# Altium footprint library Passives-SMD_LED.PCBLIB: 29 footprints (part 1 of 2)
Each footprint in its own frame and in the unit in brackets; x right, y up, seen from the top. Pads: shape width x height; smd on the part's side, far side on the other; paste and mask are expansions set on the pad; w line width, h text height; cw(c..) or ccw(c..) is an arc to the next point about the centre after c.
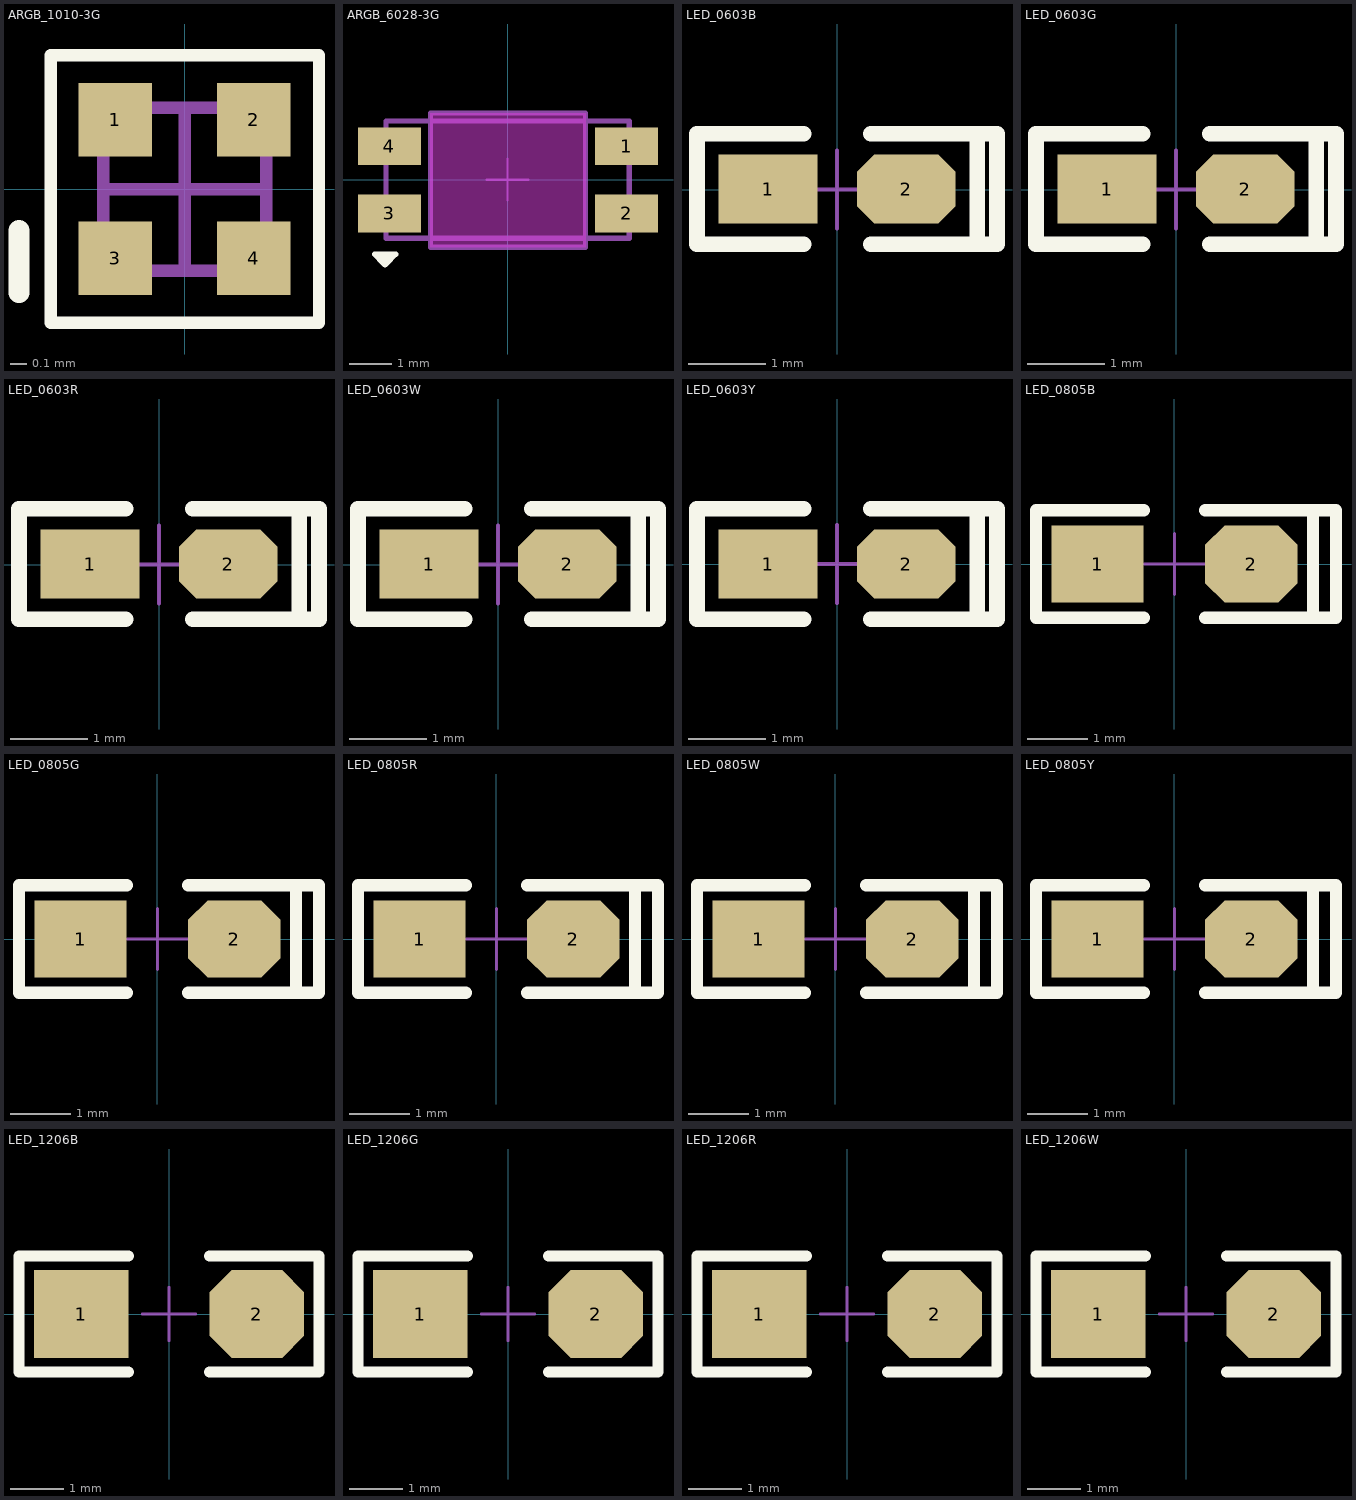
[diagram p0: the footprints below, top view; thin cyan lines are the x and y axes]

## ARGB_1010-3G [mm] "3GND"
pads (4):
  rect 0.45x0.45 smd: 1(-0.425,0.425) 2(0.425,0.425) 3(-0.425,-0.425) 4(0.425,-0.425)
Top Overlay:
  lines w0.076: -0.82,-0.82 0.825,-0.82 0.825,0.822 -0.82,0.822 -0.82,-0.82
  lines w0.127: -1.016,-0.635 -1.016,-0.254
Top 元件外形:
  lines w0.076: -0.5,-0.5 0.5,-0.5 0.5,0.5 -0.5,0.5 -0.5,-0.5
  text "DO" at -1.524,0.259 h0.51
  text "VDD" at 0.889,0.254 h0.51
  text "GND" at -1.857,-0.63 h0.51
  text "DI" at 0.889,-0.635 h0.51
Top 中心点:
  lines w0.076: -0.5,0 0.5,0 ; 0,-0.5 0,0.5
3D body: height 0.4, standoff 0, extent -0.5,-0.5 0.5,0.5

## ARGB_6028-3G [mm]
pads (4):
  rect 1.5x0.9 smd: 1(2.837,0.795) 2(2.837,-0.805) 3(-2.817,-0.805) 4(-2.817,0.795)
Top Overlay:
  lines w0.127: -3.048,-1.905 -2.921,-1.778 ; -3.048,-1.905 -2.921,-1.778 ; -3.048,-1.905 -2.794,-1.905 -2.921,-1.778 ; -3.175,-1.778 -2.667,-1.778 -2.921,-2.032 -3.175,-1.778
Keep-Out Layer:
  board cut-out: -1.84,-1.611 -1.84,1.589 1.86,1.589 1.86,-1.611
M1:
  lines w0.127: -1.84,-1.611 -1.84,1.589 1.86,1.589 1.86,-1.611 -1.84,-1.611
Top 元件外形:
  lines w0.127: -2.9,-1.4 2.9,-1.4 2.9,1.4 -2.9,1.4 -2.9,-1.4
  text "DO" at 0.608,-1.043 h0.6
  text "V" at 0.862,0.481 h0.6
  text "DI" at -1.297,0.481 h0.6
  text "G" at -1.297,-1.043 h0.6
Top 中心点:
  lines w0.05: -0.5,0 0.5,0 ; 0,-0.5 0,0.5
3D body "6028SMDRGB.STEP": height 1.25, standoff -0.8, extent -2.9,-1.4 2.9,1.4

## LED_0603B [mil]
pads (2):
  rect 50x35 smd: 1(-35,0.26)
  oct 50x35 smd: 2(35,0.26)
Top Overlay:
  lines w8: -17,-27.74 -71,-27.74 -71,-25.74 -71,28.26 -70,28.26 -17,28.26 ; 17,-27.74 70,-27.74 ; 17,28.26 71,28.26 81,28.26 81,-27.74 71,-27.74 71,26.26
Top 中心点:
  lines w1.97: -19.68,0 19.68,0 ; 0,-19.68 0,19.68
3D body "LED 0603-B.STEP": height 18.36, standoff -0.16, extent -31.49,-15.79 31.5,15.79
3D body "LED 0603玻璃罩.STEP": height 23.82, standoff 8.07, extent -23.58,-15.79 23.58,15.79

## LED_0603G [mil]
pads (2):
  rect 50x35 smd: 1(-35,0.26)
  oct 50x35 smd: 2(35,0.26)
Top Overlay:
  lines w8: -17,-27.74 -71,-27.74 -71,-25.74 -71,28.26 -70,28.26 -17,28.26 ; 17,-27.74 70,-27.74 ; 17,28.26 71,28.26 81,28.26 81,-27.74 71,-27.74 71,26.26
Top 中心点:
  lines w1.97: -19.68,0 19.68,0 ; 0,-19.68 0,19.68
3D body "LED 0603玻璃罩.": height 0, standoff 0, extent 0,0 0,0
3D body "LED 0603-G.STEP": height 18.36, standoff -0.16, extent -31.49,-15.79 31.5,15.79

## LED_0603R [mil]
pads (2):
  rect 50x35 smd: 1(-35,0.26)
  oct 50x35 smd: 2(35,0.26)
Top Overlay:
  lines w8: -17,-27.74 -71,-27.74 -71,-25.74 -71,28.26 -70,28.26 -17,28.26 ; 17,-27.74 70,-27.74 ; 17,28.26 71,28.26 81,28.26 81,-27.74 71,-27.74 71,26.26
Top 中心点:
  lines w1.97: -19.68,0 19.68,0 ; 0,-19.68 0,19.68
3D body "LED 0603-R.STEP": height 18.36, standoff -0.16, extent -31.5,-15.79 31.5,15.79
3D body "LED 0603玻璃罩.": height 0, standoff 0, extent 0,0 0,0

## LED_0603W [mil]
pads (2):
  rect 50x35 smd: 1(-35,0.26)
  oct 50x35 smd: 2(35,0.26)
Top Overlay:
  lines w8: -17,-27.74 -71,-27.74 -71,-25.74 -71,28.26 -70,28.26 -17,28.26 ; 17,-27.74 70,-27.74 ; 17,28.26 71,28.26 81,28.26 81,-27.74 71,-27.74 71,26.26
Top 中心点:
  lines w1.97: -19.68,0 19.68,0 ; 0,-19.68 0,19.68
3D body "LED 0603-W.STEP": height 18.36, standoff -0.16, extent -31.49,-15.79 31.5,15.79
3D body "LED 0603玻璃罩.": height 0, standoff 0, extent 0,0 0,0

## LED_0603Y [mil]
pads (2):
  rect 50x35 smd: 1(-35,0)
  oct 50x35 smd: 2(35,0)
Top Overlay:
  lines w8: -17,-28 -71,-28 -71,-26 -71,28 -70,28 -17,28 ; 17,-28 70,-28 ; 17,28 71,28 81,28 81,-28 71,-28 71,26
Top 中心点:
  lines w1.97: -19.68,0 19.68,0 ; 0,-19.68 0,19.68
3D body "LED 0603玻璃罩.": height 0, standoff 0, extent 0,0 0,0
3D body "LED 0603-Y.STEP": height 18.36, standoff -0.16, extent -31.5,-16.04 31.49,15.53

## LED_0805B [mil]
pads (2):
  rect 60x50 smd: 1(-50,0)
  oct 60x50 smd: 2(50,0)
Top Overlay:
  lines w8: -20,-35 -90,-35 -90,35 -20,35 ; 20,-35 105,-35 105,35 20,35 ; 90,-35 90,35
Top 中心点:
  lines w1.97: -19.68,0 19.68,0 ; 0,-19.68 0,19.68
3D body "LED 0805-B.STEP": height 26.33, standoff -0.16, extent -39.37,-24.65 39.37,24.65
3D body "LED 0805玻璃罩.STEP": height 31.69, standoff 12.01, extent -29.49,-24.65 29.49,24.65

## LED_0805G [mil]
pads (2):
  rect 60x50 smd: 1(-50,0)
  oct 60x50 smd: 2(50,0)
Top Overlay:
  lines w8: -20,-35 -90,-35 -90,35 -20,35 ; 20,-35 105,-35 105,35 20,35 ; 90,-35 90,35
Top 中心点:
  lines w1.97: -19.68,0 19.68,0 ; 0,-19.68 0,19.68
3D body "LED 0805玻璃罩.ST": height 31.69, standoff 12.01, extent -29.49,-24.65 29.49,24.65
3D body "LED 0805-G.STEP": height 26.33, standoff -0.16, extent -39.37,-24.65 39.37,24.65

## LED_0805R [mil]
pads (2):
  rect 60x50 smd: 1(-50,0)
  oct 60x50 smd: 2(50,0)
Top Overlay:
  lines w8: -20,-35 -90,-35 -90,35 -20,35 ; 20,-35 105,-35 105,35 20,35 ; 90,-35 90,35
Top 中心点:
  lines w1.97: -19.68,0 19.68,0 ; 0,-19.68 0,19.68
3D body "LED 0805玻璃罩.ST": height 31.69, standoff 12.01, extent -29.49,-24.65 29.49,24.65
3D body "LED 0805-R.STEP": height 26.33, standoff -0.16, extent -39.37,-24.65 39.37,24.64

## LED_0805W [mil]
pads (2):
  rect 60x50 smd: 1(-50,0)
  oct 60x50 smd: 2(50,0)
Top Overlay:
  lines w8: -20,-35 -90,-35 -90,35 -20,35 ; 20,-35 105,-35 105,35 20,35 ; 90,-35 90,35
Top 中心点:
  lines w1.97: -19.68,0 19.68,0 ; 0,-19.68 0,19.68
3D body "LED 0805玻璃罩.ST": height 31.69, standoff 12.01, extent -29.49,-24.65 29.49,24.65
3D body "LED 0805-W.STEP": height 26.33, standoff -0.16, extent -39.37,-24.65 39.37,24.64

## LED_0805Y [mil]
pads (2):
  rect 60x50 smd: 1(-50,0)
  oct 60x50 smd: 2(50,0)
Top Overlay:
  lines w8: -20,-35 -90,-35 -90,35 -20,35 ; 20,-35 105,-35 105,35 20,35 ; 90,-35 90,35
Top 中心点:
  lines w1.97: -19.68,0 19.68,0 ; 0,-19.68 0,19.68
3D body "LED 0805-Y.STEP": height 26.33, standoff -0.16, extent -39.37,-24.65 39.37,24.65
3D body "LED 0805玻璃罩.ST": height 31.69, standoff 12.01, extent -29.49,-24.65 29.49,24.65

## LED_1206B [mil]
pads (2):
  rect 70x65 smd: 1(-65,0)
  oct 70x65 smd: 2(65,0)
Top Overlay:
  lines w8: -30,-43 -111,-43 -111,43 -109,43 -30,43 ; 30,-43 109,-43 ; 30,43 111,43 111,-43
Top 中心点:
  lines w1.97: -19.68,0 19.68,0 ; 0,-19.68 0,19.68
3D body "LED 1206玻璃罩.STEP": height 39.57, standoff 19.88, extent -44.33,-31.54 44.33,31.54
3D body "LED 1206-B.STEP": height 35.58, standoff -0.16, extent -63.03,-31.54 63.03,31.54

## LED_1206G [mil]
pads (2):
  rect 70x65 smd: 1(-65,0)
  oct 70x65 smd: 2(65,0)
Top Overlay:
  lines w8: -30,-43 -111,-43 -111,43 -109,43 -30,43 ; 30,-43 109,-43 ; 30,43 111,43 111,-43
Top 中心点:
  lines w1.97: -19.68,0 19.68,0 ; 0,-19.68 0,19.68
3D body "LED 1206玻璃罩.ST": height 0, standoff 0, extent 0,0 0,0
3D body "LED 1206-G.STEP": height 35.58, standoff -0.16, extent -63.03,-31.54 63.03,31.54

## LED_1206R [mil]
pads (2):
  rect 70x65 smd: 1(-65,0)
  oct 70x65 smd: 2(65,0)
Top Overlay:
  lines w8: -30,-43 -111,-43 -111,43 -109,43 -30,43 ; 30,-43 109,-43 ; 30,43 111,43 111,-43
Top 中心点:
  lines w1.97: -19.68,0 19.68,0 ; 0,-19.68 0,19.68
3D body "LED 1206玻璃罩.ST": height 0, standoff 0, extent 0,0 0,0
3D body "LED 1206-R.STEP": height 35.58, standoff -0.16, extent -63.03,-31.54 63.03,31.54

## LED_1206W [mil]
pads (2):
  rect 70x65 smd: 1(-65,0)
  oct 70x65 smd: 2(65,0)
Top Overlay:
  lines w8: -30,-43 -111,-43 -111,43 -109,43 -30,43 ; 30,-43 109,-43 ; 30,43 111,43 111,-43
Top 中心点:
  lines w1.97: -19.68,0 19.68,0 ; 0,-19.68 0,19.68
3D body "LED 1206玻璃罩.ST": height 0, standoff 0, extent 0,0 0,0
3D body "LED 1206-W.STEP": height 35.58, standoff -0.16, extent -63.03,-31.54 63.03,31.54